# EAGLE library part SNP (library connectors)
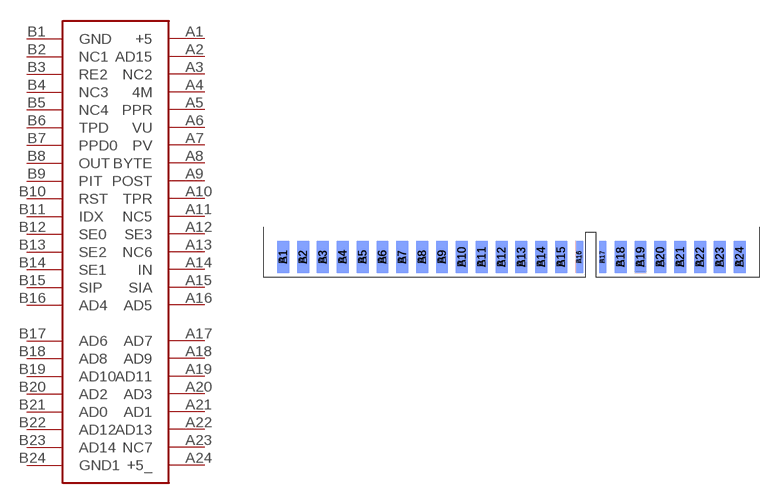
[diagram p0: symbol with the pads of SNP15-48-BOARD; footprint SNP15-48-BOARD]

Designator prefix -

## SNP  [SNP15-48-BOARD]
A1  +5
A2  AD15
A3  NC2
A4  4M
A5  PPR
A6  VU
A7  PV
A8  BYTE
A9  POST
A10  TPR
A11  NC5
A12  SE3
A13  NC6
A14  IN
A15  SIA
A16  AD5
A17  AD7
A18  AD9
A19  AD11
A20  AD3
A21  AD1
A22  AD13
A23  NC7
A24  +5_
B1  GND
B2  NC1
B3  RE2
B4  NC3
B5  NC4
B6  TPD
B7  PPD0
B8  OUT
B9  PIT
B10  RST
B11  IDX
B12  SE0
B13  SE2
B14  SE1
B15  SIP
B16  AD4
B17  AD6
B18  AD8
B19  AD10
B20  AD2
B21  AD0
B22  AD12
B23  AD14
B24  GND1

## Footprint SNP15-48-BOARD (pad centres in mm)
smd 1.5 x 4.038 bottom: A1 1.25,0; A2 3.75,0; A3 6.25,0; A4 8.75,0; A5 11.25,0; A6 13.75,0; A7 16.25,0; A8 18.75,0; A9 21.25,0; A10 23.75,0; A11 26.25,0; A12 28.75,0; A13 31.25,0; A14 33.75,0; A15 36.25,0; A18 43.75,0; A20 48.75,0; A21 51.25,0; A22 53.75,0; A23 56.25,0; A24 58.75,0
smd 0.895 x 4.038 bottom: A16 38.572,0; A17 41.479,0
smd 1.5 x 3.962 bottom: A19 46.25,0
smd 1.5 x 4.038: B1 1.25,0; B2 3.75,0; B3 6.25,0; B4 8.75,0; B5 11.25,0; B6 13.75,0; B7 16.25,0; B8 18.75,0; B9 21.25,0; B10 23.75,0; B11 26.25,0; B12 28.75,0; B13 31.25,0; B14 33.75,0; B15 36.25,0; B18 43.75,0; B19 46.25,0; B20 48.75,0; B21 51.25,0; B22 53.75,0; B23 56.25,0; B24 58.75,0
smd 0.895 x 4.038: B16 38.521,0; B17 41.479,0